# Altium footprint library Sanyou Relay.PcbLib: 1 footprints
Each footprint in its own frame and in the unit in brackets; x right, y up, seen from the top. Pads: shape width x height; smd on the part's side, far side on the other; paste and mask are expansions set on the pad; w line width, h text height; cw(c..) or ccw(c..) is an arc to the next point about the centre after c.
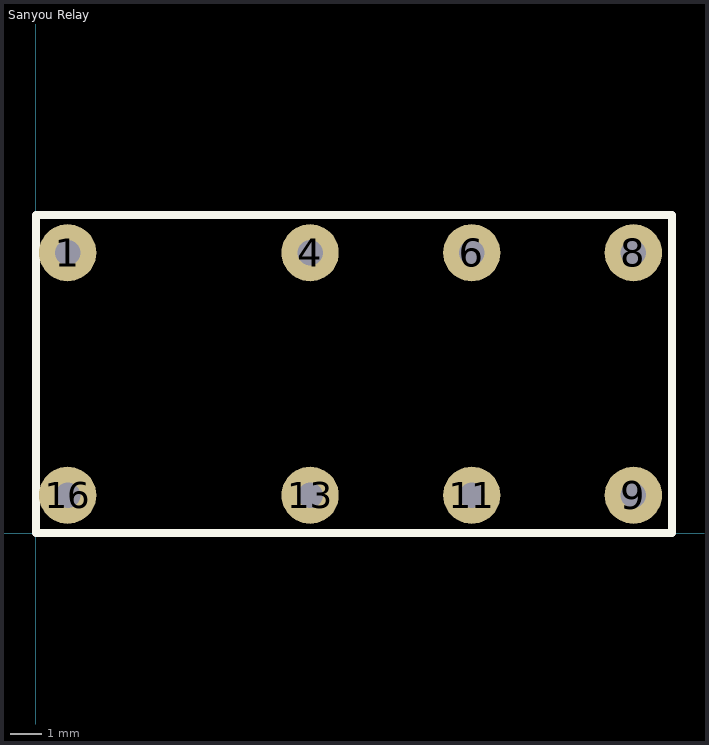
[diagram p0: the footprint, top view; thin cyan lines are the x and y axes]

## Sanyou Relay [mm] "Sanyou Relay"
pads (8):
  round 1.8 hole 0.8: 1(1,8.81) 4(8.62,8.81) 6(13.7,8.81) 8(18.78,8.81) 9(18.78,1.19) 11(13.7,1.19) 13(8.62,1.19) 16(1,1.19)
Top Overlay:
  lines w0.254: 0,0 0,10 20,10 20,0 0,0